# Altium schematic symbol library PCA9655E.SchLib: 1 symbol
Pins are listed as number, name and electrical type; pins without a type are passive.

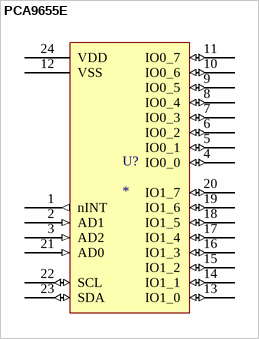
[diagram p0: symbol PCA9655E]

## PCA9655E
designator U?
Remote 16-bit I/O Expander / for I2C Bus with Interrupt
footprint TSSOP24_without_Pad
pins: 1 nINT (out), 2 AD1 (in), 3 AD2 (in), 4 IO0_0 (io), 5 IO0_1 (io), 6 IO0_2 (io), 7 IO0_3 (io), 8 IO0_4 (io), 9 IO0_5 (io), 10 IO0_6 (io), 11 IO0_7 (io), 12 VSS (power), 13 IO1_0 (io), 14 IO1_1 (io), 15 IO1_2 (io), 16 IO1_3 (io), 17 IO1_4 (io), 18 IO1_5 (io), 19 IO1_6 (io), 20 IO1_7 (io), 21 AD0 (in), 22 SCL (io), 23 SDA (io), 24 VDD (power)